# Altium footprint library Res_Stackpole_RMCF0603FT220R_eec_MFG.PcbLib: 1 footprints
Each footprint in its own frame and in the unit in brackets; x right, y up, seen from the top. Pads: shape width x height; smd on the part's side, far side on the other; paste and mask are expansions set on the pad; w line width, h text height; cw(c..) or ccw(c..) is an arc to the next point about the centre after c.
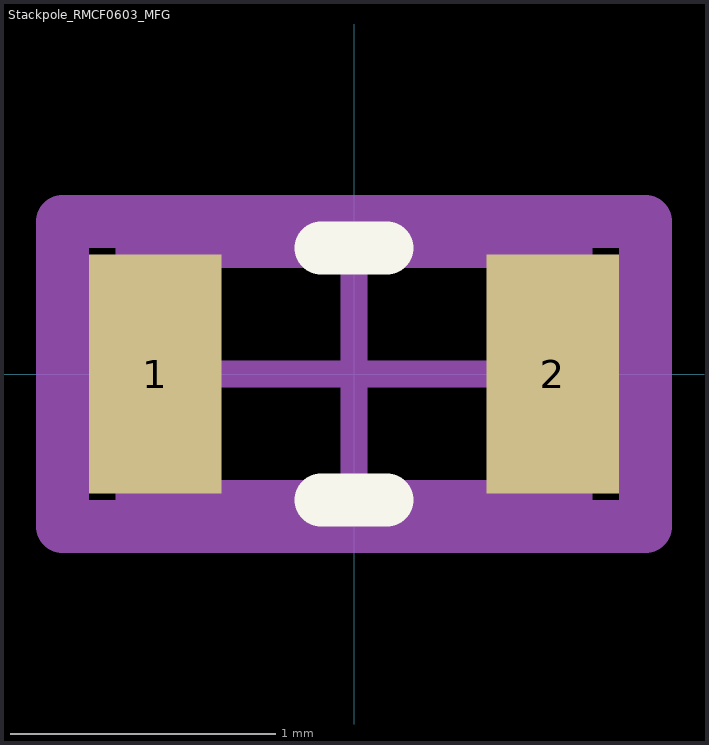
[diagram p0: the footprint, top view; thin cyan lines are the x and y axes]

## Stackpole_RMCF0603_MFG [mm]
pads (2):
  rect 0.5x0.9 smd paste+0 mask+0: 1(-0.75,0) 2(0.75,0)
Top Overlay:
  lines w0.2: -0.125,-0.475 0.125,-0.475 ; -0.125,0.475 0.125,0.475
Mechanical 10:
  lines w0.2: -1.1,-0.575 1.1,-0.575 1.1,0.575 -1.1,0.575 -1.1,-0.575
  text ".Designator" at 0,0 h1
Mechanical 12:
  lines w0.15: -0.825,-0.475 0.825,-0.475 0.825,0.475 -0.825,0.475 -0.825,-0.475
Mechanical 15:
  lines w0.1: -0.5,0 0.5,0 ; 0,-0.5 0,0.5
  lines w0.2: -1.1,-0.575 1.1,-0.575 1.1,0.575 -1.1,0.575 -1.1,-0.575